# EAGLE library part APA102_5050_TINY_PAD (library led)
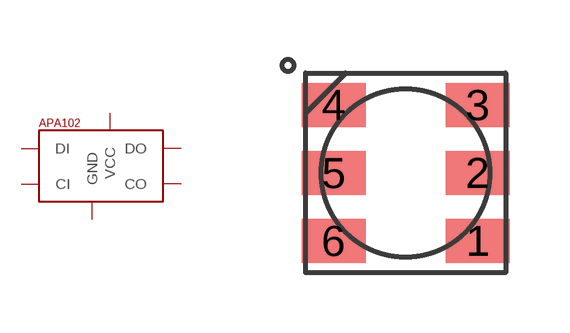
[diagram p0: symbol with the pads of APA102_5050_TINY_PAD; footprint APA102_5050_TINY_PAD]

Designator prefix -

## APA102_5050_TINY_PAD  [APA102_5050_TINY_PAD]
1  VCC
2  CO
3  DO
4  DI
5  CI
6  GND

## Footprint APA102_5050_TINY_PAD (pad centres in mm)
smd 1.6 x 1.1: 1 1.8,-1.7; 2 1.8,0; 3 1.8,1.7; 4 -1.8,1.7; 5 -1.8,0; 6 -1.8,-1.7